# EAGLE library part CC2564MODA (library My_TI)
CC2564MODA Bluetooth® Host Controller Interface (HCI) Module. Datasheet <http://www.ti.com/lit/ds/symlink/cc2564moda.pdf>
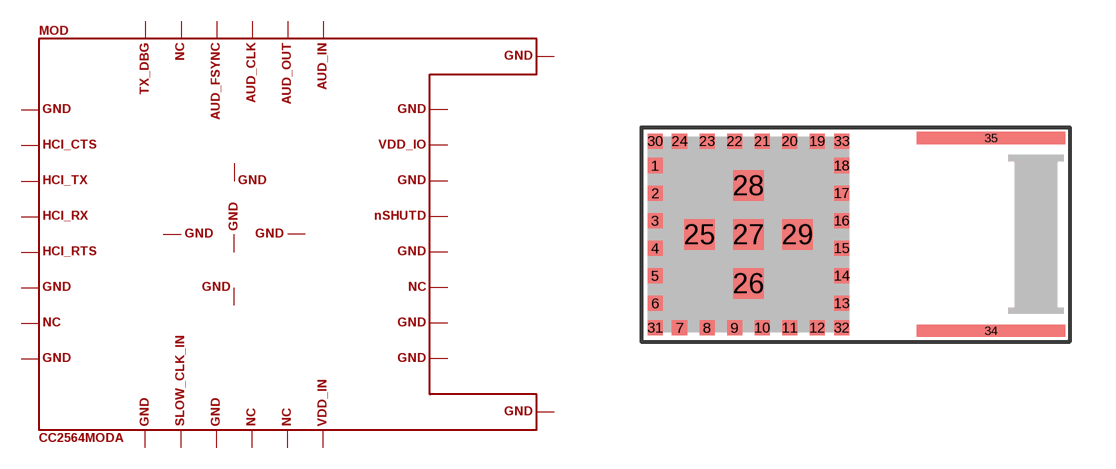
[diagram p47: symbol with the pads of CC2564MODA; footprint CC2564MODA]

Designator prefix MOD

## CC2564MODA  [CC2564MODA]
1  P$1
2  P$2
3  P$3
4  P$4
5  P$5
6  P$6
7  P$7
8  P$8
9  P$9
10  P$10
11  P$11
12  P$12
13  P$13
14  P$14
15  P$15
16  P$16
17  P$17
18  P$18
19  P$19
20  P$20
21  P$21
22  P$22
23  P$23
24  P$24
25  P$25
26  P$26
27  P$27
28  P$28
29  P$29
30  P$30
31  P$31
32  P$32
33  P$33
34  P$34
35  P$35

## Footprint CC2564MODA (pad centres in mm)
smd 0.5 x 0.5: 1 -6.55,2.25; 2 -6.55,1.35; 3 -6.55,0.45; 4 -6.55,-0.45; 5 -6.55,-1.35; 6 -6.55,-2.25; 7 -5.75,-3.05; 8 -4.85,-3.05; 9 -3.95,-3.05; 10 -3.05,-3.05; 11 -2.15,-3.05; 12 -1.25,-3.05; 13 -0.45,-2.25; 14 -0.45,-1.35; 15 -0.45,-0.45; 16 -0.45,0.45; 17 -0.45,1.35; 18 -0.45,2.25; 19 -1.25,3.05; 20 -2.15,3.05; 21 -3.05,3.05; 22 -3.95,3.05; 23 -4.85,3.05; 24 -5.75,3.05; 30 -6.55,3.05; 31 -6.55,-3.05; 32 -0.45,-3.05; 33 -0.45,3.05
smd 1 x 1: 25 -5.1,0; 26 -3.5,-1.6; 27 -3.5,0; 28 -3.5,1.6; 29 -1.9,0
smd 4.85 x 0.4: 34 4.425,-3.15; 35 4.425,3.15